# EAGLE library part P82B96 (library 11n-treelib)
I2C Buffer mit separatem RX und TX Ausgang
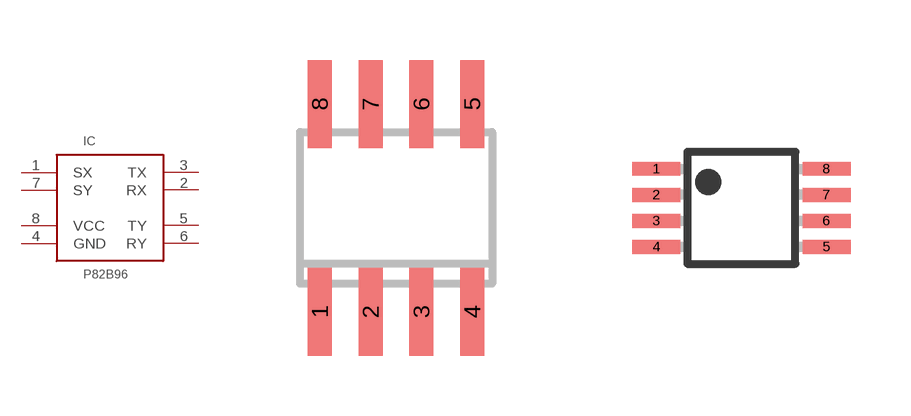
[diagram p0: symbol with the pads of SO08; footprints SO08, TSSOP8]

Designator prefix IC

## P82B96SO8  [SO08]
1  SX  in
2  RX  in
3  TX  out
4  GND  pwr
5  TY  out
6  RY  in
7  SY  in
8  VCC  pwr

## P82B96TSSOP8  [TSSOP8]
Pads as for SO08

## Footprint SO08 (pad centres in mm)
SMALL OUTLINE INTEGRATED CIRCUIT body 3.9 mm/JEDEC MS-012AA
smd 0.6 x 2.2: 1 -1.905,-2.6; 2 -0.635,-2.6; 3 0.635,-2.6; 4 1.905,-2.6; 5 1.905,2.6; 6 0.635,2.6; 7 -0.635,2.6; 8 -1.905,2.6

## Footprint TSSOP8 (pad centres in mm)
Plastic Small Outline
smd 1.2 x 0.35: 1 -2.125,0.975; 2 -2.125,0.325; 3 -2.125,-0.325; 4 -2.125,-0.975; 5 2.125,-0.975; 6 2.125,-0.325; 7 2.125,0.325; 8 2.125,0.975